# Altium footprint library HO2.8-1B+SOIC-8_INV.PcbLib: 1 footprints
Each footprint in its own frame and in the unit in brackets; x right, y up, seen from the top. Pads: shape width x height; smd on the part's side, far side on the other; paste and mask are expansions set on the pad; w line width, h text height; cw(c..) or ccw(c..) is an arc to the next point about the centre after c.
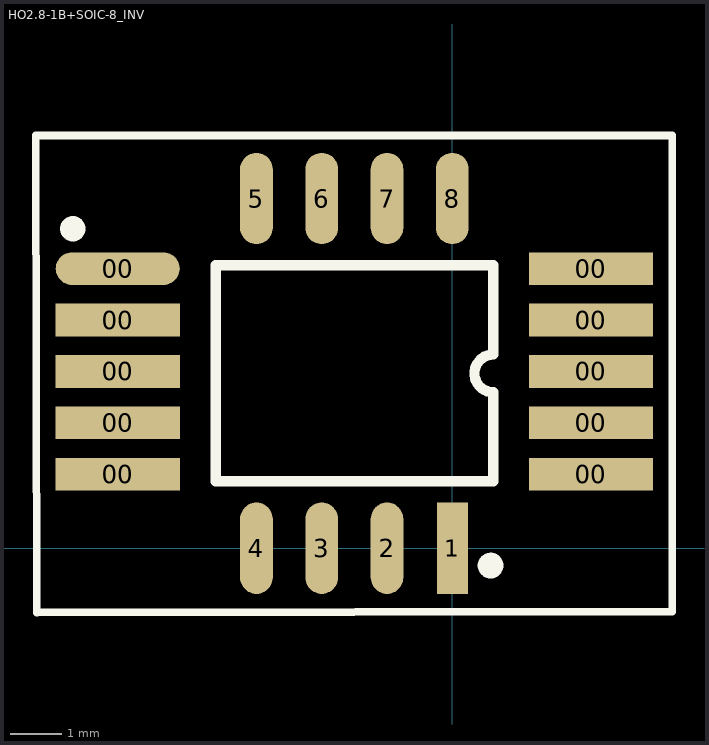
[diagram p0: the footprint, top view; thin cyan lines are the x and y axes]

## HO2.8-1B+SOIC-8_INV [mil]
pads (18):
  rect 95x25 smd: 00(-256.18,56.58) 00(-256.18,95.95) 00(-256.18,135.32) 00(-256.18,174.69) 00(106.02,56.58) 00(106.02,95.95) 00(106.02,135.32) 00(106.02,174.69) 00(106.02,214.06)
  oval 95x25 smd: 00(-256.18,214.06)
  rect 23.62x70 smd: 1(0,0)
  oval 25x70 smd: 2(-50,0) 3(-100,0) 4(-150,0) 5(-150,267.72) 6(-100,267.72) 7(-50,267.72) 8(0,267.72)
Top Overlay:
  circle w9.84: c29.25,-13.31 r4.92
  circle w10: c-290.63,244.57 r4.68
  lines w6: -318.18,-49.21 -318.9,315.94 168.31,315.94 168.31,-48.42 -317.91,-49.21
  lines w7.87: -181.1,215.14 -181.1,51.18 31.35,51.18 31.35,119.42 cw(c31.35,133.86) 31.35,148.29 31.35,216.54 -181.1,216.54
3D body "N02.8-1B.STEP": height 114.17, standoff 0, extent -242.4,5.39 92.25,261.3